# Altium footprint library OHMITE_PKG_MCS3264.PcbLib: 1 footprints
Each footprint in its own frame and in the unit in brackets; x right, y up, seen from the top. Pads: shape width x height; smd on the part's side, far side on the other; paste and mask are expansions set on the pad; w line width, h text height; cw(c..) or ccw(c..) is an arc to the next point about the centre after c.
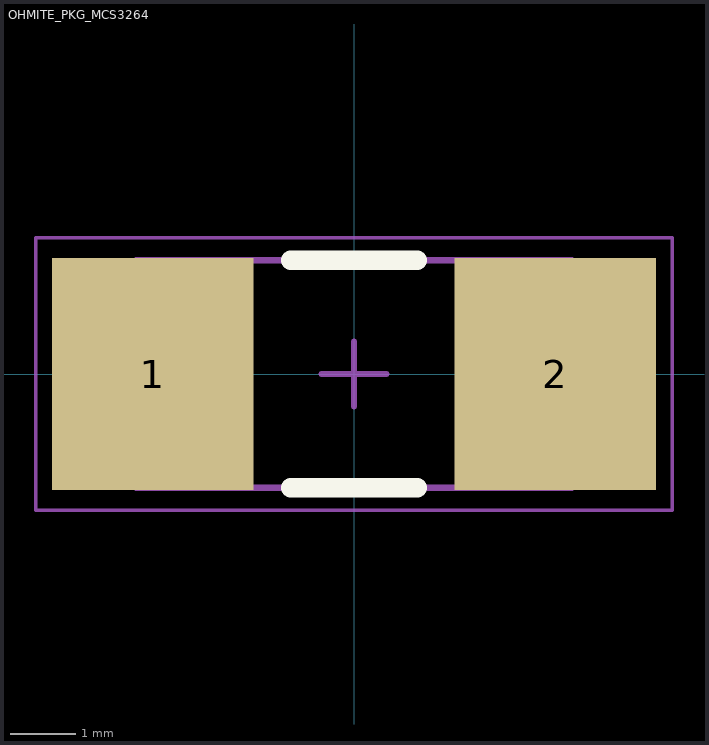
[diagram p0: the footprint, top view; thin cyan lines are the x and y axes]

## OHMITE_PKG_MCS3264 [mm]
height 5.5
pads (2):
  rect 3.1x3.57 smd: 1(-3.1,0) 2(3.1,0)
Top Overlay:
  lines w0.3: -0.975,-1.75 0.975,-1.75 ; -0.975,1.75 0.975,1.75
Mechanical 13:
  lines w0.1: -3.35,-1.75 3.35,-1.75 3.35,1.75 -3.35,1.75 -3.35,-1.75
Mechanical 15:
  lines w0.05: -4.9,-2.1 4.9,-2.1 4.9,2.1 -4.9,2.1 -4.9,-2.1
  lines w0.1: -0.5,0 0.5,0 ; 0,-0.5 0,0.5
3D body: height 0.85, standoff 0, extent -3.35,-1.75 3.35,1.75